# EAGLE library part 75869-?LF (library Audioptics_Connectors)
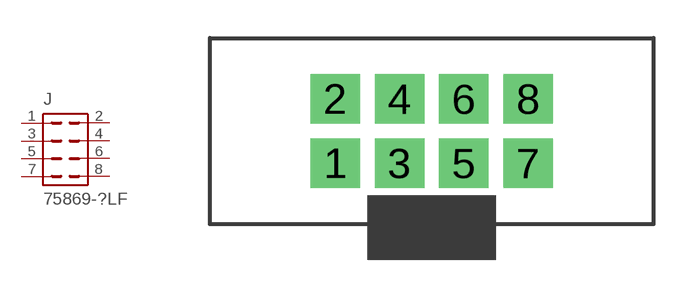
[diagram p2: symbol with the pads of 75869-132LF; footprint 75869-132LF]

Designator prefix J

## 75869-132LF  [75869-132LF]
1  1  pas
2  2  pas
3  3  pas
4  4  pas
5  5  pas
6  6  pas
7  7  pas
8  8  pas

## Footprint 75869-132LF (pad centres in mm)
drill 1.3 square: 1 -3.81,-1.27; 2 -3.81,1.27; 3 -1.27,-1.27; 4 -1.27,1.27; 5 1.27,-1.27; 6 1.27,1.27; 7 3.81,-1.27; 8 3.81,1.27